# Altium schematic symbol library Universal components.SchLib: 42 symbols
Pins are listed as number, name and electrical type; pins without a type are passive.

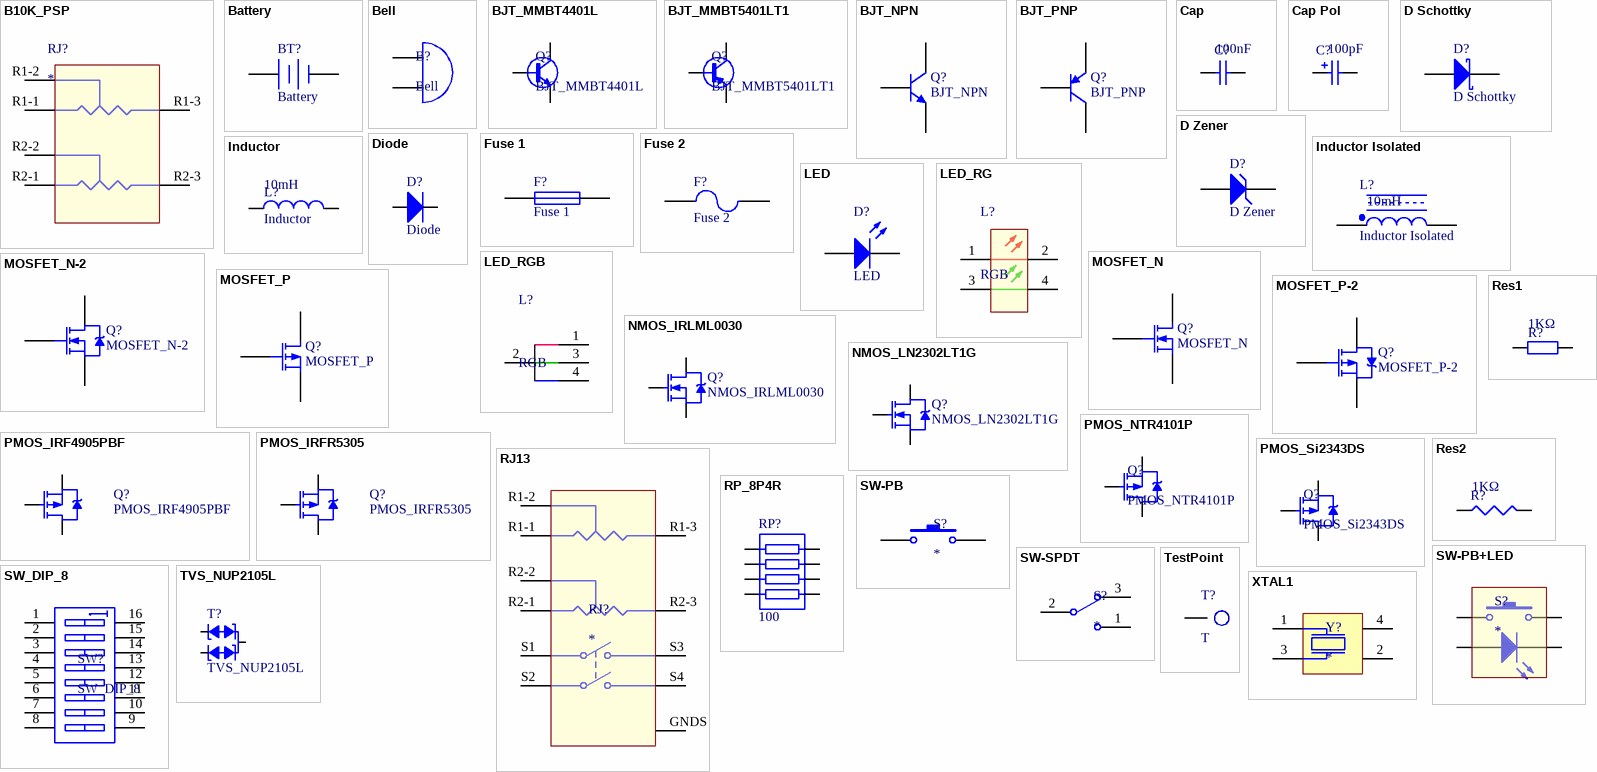
[diagram p0: symbols B10K_PSP to XTAL1]

## B10K_PSP
designator RJ?
footprint B10K_PSP
pins: R1-1 A, R1-2 TAP, R1-3 B, R2-1 A, R2-2 TAP, R2-3 B

## Battery
designator BT?
Multicell Battery; Published: 24-Mar-1999; LatestRevisionDate: 17-Jul-2002; LatestRevisionNote: Re-released for DXP Platform.; PackageReference: BAT-2; Publisher: Altium Limited; PackageDescription: Battery; 2 Leads
footprint BAT-HOL_S_18650X2 (Battery Holder, Surface mount, 18650 battery  2 cells)
pins: 1 +, 2 -

## Bell
designator B?
footprint Bell
footprint Bell_2310_15
footprint BELL_12X9.5
pins: 1 A, 2 B

## BJT_MMBT4401L
designator Q?
Switching Transistor  NPN Silicon
footprint SOT23_3_1 (SOT23, 3-Leads, Body 2.92x2.37mm, Pitch 0.95mm, IPC Medium Density)
pins: 1 b, 2 e, 3 c

## BJT_MMBT5401LT1
designator Q?
High Voltage Transistor  PNP Silicon
footprint SOT23_3_1 (SOT23, 3-Leads, Body 2.92x2.37mm, Pitch 0.95mm, IPC Medium Density)
pins: 1 B, 2 E, 3 C

## BJT_NPN
designator Q?
NPN Bipolar Transistor; Published: 8-Jun-2000; LatestRevisionDate: 17-Jul-2002; LatestRevisionNote: Re-released for DXP Platform.; PackageReference: TO-226-AA; Publisher: Altium Limited; PackageDescription: TO, Flat Index; 3 In-Line, Axial Leads; Body Dia. 4.8mm; Leads 0.55 x 0.51 mm (max); Code_JEDEC: TO-226-AA
simulation model NPN
signal-integrity model NPN
footprint SOT23_3_1 (SOT23, 3-Leads, Body 2.92x2.37mm, Pitch 0.95mm, IPC Medium Density)
footprint SOT523 (SOT23, 3-Leads, Body 1.60x1.60mm, Pitch 0.50mm, IPC High Density)
footprint SC70_3(SOT323) (SOT23, 3-Leads, Body 2.00x2.20mm, Pitch 0.65mm, IPC High Density)
footprint SC89_3(SOT490) (SOTFL, 3-Leads, Body 1.60x1.60mm, Pitch 0.50mm, IPC Medium Density)
pins: 1 B, 2 E, 3 C

## BJT_PNP
designator Q?
PNP Bipolar Transistor; Published: 8-Jun-2000; LatestRevisionDate: 29-May-2009; LatestRevisionNote: IPC-7351 Footprint Added.; PackageVersion: Aug-1999; PackageReference: SOT-23B; Publisher: Altium Limited; PackageDescription: 3-Pin SOT-23 Package 0.95 mm Pitch, 2.4 mm Lead Span
simulation model PNP
signal-integrity model PNP
footprint SOT23_3_1 (SOT23, 3-Leads, Body 2.92x2.37mm, Pitch 0.95mm, IPC Medium Density)
footprint SOT523 (SOT23, 3-Leads, Body 1.60x1.60mm, Pitch 0.50mm, IPC High Density)
footprint SC70_3(SOT323) (SOT23, 3-Leads, Body 2.00x2.20mm, Pitch 0.65mm, IPC High Density)
footprint SC89_3(SOT490) (SOTFL, 3-Leads, Body 1.60x1.60mm, Pitch 0.50mm, IPC Medium Density)
pins: 1 C, 2 B, 3 E

## Cap
designator C?  value 100nF  (hidden comment: Cap)
Capacitor SMD; Published: 8-Jun-2000; LatestRevisionDate: 17-Jul-2002; LatestRevisionNote: Re-released for DXP Platform.; PackageReference: RAD-0.3; Publisher: Altium Limited; PackageDescription: Radial Cap, Thru-Hole; 2 Leads; 0.3 in Pin Spacing
simulation model CAP (Capacitor)
signal-integrity model Cap
footprint C0402(1005) (Chip Inductor, 2-Leads, Body 1.00x0.50mm, IPC Medium Density)
footprint C1206(3216) (Chip Capacitor, 2-Leads, Body 3.20x1.60mm, IPC Medium Density)
footprint C1210(3225) (Chip Capacitor, 2-Leads, Body 3.20x2.50mm, IPC Medium Density)
footprint C0603(1608)_M (Chip Capacitor, Body 1.6x0.8mm, IPC Low Density)
footprint C0603(1608)_N (Chip Capacitor, 2-Leads, Body 1.60x0.80mm, IPC Medium Density)
footprint C0805(2012)_M (Chip Capacitor, Body 2.0x1.3mm, IPC Low Density)
footprint C0805(2012)_N (Chip Capacitor, 2-Leads, Body 2.00x1.25mm, IPC Medium Density)
pins: 1, 2

## Cap Pol
designator C?  value 100pF  (hidden comment: Cap Pol)
Polarized Capacitor (Surface Mount); Published: 8-Jun-2000; LatestRevisionDate: 29-May-2009; LatestRevisionNote: IPC-7351 Footprint Added.; PackageReference: C0805; Publisher: Altium Limited; PackageDescription: Chip Capacitor
simulation model CAP (Capacitor)
signal-integrity model Cap Pol
footprint CAE_D4.0X5.4 (Aluminum Electrolytic Capacitor, Body 4.30x4.30x5.60mm, IPC Low Density)
footprint CAE_D5.0X5.4 (Aluminum Electrolytic Capacitor, Body 5.30x5.30x5.60mm, IPC Low Density)
footprint CAE_D6.3X5.4 (Aluminum Electrolytic Capacitor, Body 6.60x6.60x5.70mm, IPC Low Density)
footprint CAE_D6.3X7.7 (Aluminum Electrolytic Capacitor, Body 6.60x6.60x7.90mm, IPC Low Density)
footprint CAE_D8.0X6.2 (Aluminum Electrolytic Capacitor, Body 8.30x8.30x6.40mm, IPC Low Density)
footprint CAE_D8.0X10.2 (Aluminum Electrolytic Capacitor, Body 8.30x8.30x11.00mm, IPC Low Density)
footprint CAE_D10.0X10.2 (Aluminum Electrolytic Capacitor, Body 10.30x10.30x11.00mm, IPC Low Density)
footprint CAE_D10.0X13.5 (Aluminum Electrolytic Capacitor, Body 10.30x10.30x14.50mm, IPC Low Density)
footprint CT_3216(A)
footprint CAE_8.0X12.0X3.5 (脚距3.5mm)
pins: 1, 2
1 alternate drawing of the same symbol

## D Schottky
designator D?
Schottky Diode; Published: 8-Jun-2000; LatestRevisionDate: 17-Jul-2002; LatestRevisionNote: Re-released for DXP Platform.; PackageReference: SMB; Publisher: Altium Limited; PackageDescription: DO-214-AA/SMB; 2 C-Bend Leads; Body 5.3 x 3.6 mm, inc. leads (LxW); Code_JEDEC: DO-214-AA
simulation model SKYDIODE (Diode)
signal-integrity model D Schottky
footprint DO-214AA(SMB) (Molded Diode, 2-Leads, Body 5.29x3.62mm, IPC Medium Density)
footprint DO-214AB(SMC) (Molded Diode, 2-Leads, Body 7.94x5.90mm, IPC Medium Density)
footprint DO-214AC(SMA) (Molded Diode, 2-Leads, Body 5.19x2.60mm, IPC Medium Density)
footprint DO-214AD(SMAF) (SODFL, 2-Leads, Body 2.60x4.60mm, IPC Medium Density)
pins: 1 K, 2 A

## D Zener
designator D?
Zener Diode; Published: 8-Jun-2000; LatestRevisionDate: 17-Jul-2002; LatestRevisionNote: Re-released for DXP Platform.; PackageReference: DIODE-0.7; Publisher: Altium Limited; PackageDescription: Diode, Thru-Hole; 2 Leads; 0.7 in Pin Spacing
simulation model ZENER (Diode)
signal-integrity model D Zener
footprint DO-214AA(SMB) (Molded Diode, 2-Leads, Body 5.29x3.62mm, IPC Medium Density)
footprint DO-214AB(SMC) (Molded Diode, 2-Leads, Body 7.94x5.90mm, IPC Medium Density)
footprint DO-214AC(SMA) (Molded Diode, 2-Leads, Body 5.19x2.60mm, IPC Medium Density)
footprint DO-214AD(SMAF) (SODFL, 2-Leads, Body 2.60x4.60mm, IPC Medium Density)
pins: 1 K, 2 A

## Diode
designator D?
Default Diode; Published: 8-Jun-2000; LatestRevisionDate: 17-Jul-2002; LatestRevisionNote: Re-released for DXP Platform.; PackageVersion: Sep-1996; PackageReference: SMC; Publisher: Altium Limited; PackageDescription: DO-214-AB/SMC; 2 C-Bend Leads; Body 7.9 x 5.9 mm, inc. leads (LxW); Code_JEDEC: DO-214-AB
simulation model DIODE (Diode)
signal-integrity model Diode
footprint SOD123 (SODFL, 2-Leads, Body 1.60x3.70mm, IPC Medium Density)
footprint SOD123_F (SODFL, 2-Leads, Body 1.60x3.70mm, IPC Medium Density)
footprint SOD323 (SODFL, 2-Leads, Body 1.30x2.60mm, IPC Medium Density)
footprint SOD323_F (SODFL, 2-Leads, Body 1.30x2.60mm, IPC Medium Density)
footprint SOD523 (SODFL, 2-Leads, Body 0.80x1.60mm, IPC Medium Density)
footprint SOD723 (SODFL, 2-Leads, Body 0.60x1.40mm, IPC Medium Density)
footprint SOD923 (SODFL, 2-Leads, Body 0.60x1.00mm, IPC Medium Density)
pins: 1 K, 2 A

## Fuse 1
designator F?
Fuse
simulation model FUSE (Spice Subcircuit)
footprint F0603(1608) (Chip Fuse, 2-Leads, Body 1.65x0.80mm, IPC Medium Density)
footprint F0805(2012) (Chip Fuse, 2-Leads, Body 2.10x1.35mm, IPC Medium Density)
footprint F1210(3225) (Chip Fuse, 2-Leads, Body 3.22x2.57mm, IPC Medium Density)
footprint F1812(4532) (Chip Fuse, 2-Leads, Body 4.55x3.24mm, IPC Medium Density)
footprint F2920 (Chip Fuse, 2-Leads, Body 7.36x5.12mm, IPC Medium Density)
footprint F1206(3216) (Chip Fuse, 2-Leads, Body 3.25x1.70mm, IPC Medium Density)
pins: 1, 2

## Fuse 2
designator F?
Fuse
simulation model FUSE (Spice Subcircuit)
footprint F0603(1608) (Chip Fuse, 2-Leads, Body 1.65x0.80mm, IPC Medium Density)
footprint F0805(2012) (Chip Fuse, 2-Leads, Body 2.10x1.35mm, IPC Medium Density)
footprint F1210(3225) (Chip Fuse, 2-Leads, Body 3.22x2.57mm, IPC Medium Density)
footprint F1812(4532) (Chip Fuse, 2-Leads, Body 4.55x3.24mm, IPC Medium Density)
footprint F2920 (Chip Fuse, 2-Leads, Body 7.36x5.12mm, IPC Medium Density)
footprint F1206(3216) (Chip Fuse, 2-Leads, Body 3.25x1.70mm, IPC Medium Density)
pins: 1, 2

## Inductor
designator L?  value 10mH
Code_IEC: 1005; Published: 8-Jun-2000; LatestRevisionDate: 29-May-2009; LatestRevisionNote: IPC-7351 Footprint Added.; PackageReference: 0402-A; Publisher: Altium Limited; PackageDescription: Chip Inductor; Code_JEITA: 0402
simulation model INDUCTOR (Inductor)
signal-integrity model Inductor
footprint L0402(1005) (Chip Inductor, 2-Leads, Body 1.00x0.50mm, IPC Medium Density)
footprint L0603(1608) (Chip Inductor, 2-Leads, Body 1.60x0.80mm, IPC Medium Density)
footprint L0805(2012) (Chip Inductor, 2-Leads, Body 2.00x1.25mm, IPC Medium Density)
footprint L1008(2520) (Chip Inductor, 2-Leads, Body 2.50x2.00mm, IPC Medium Density)
footprint L1210(3225) (Chip Inductor, 2-Leads, Body 3.20x2.50mm, IPC Medium Density)
footprint L1812(4532) (Chip Inductor, 2-Leads, Body 4.50x3.20mm, IPC Medium Density)
pins: 1, 2

## Inductor Isolated
designator L?  value 10mH
Isolated Inductor; Published: 24-Mar-1999; LatestRevisionDate: 17-Jul-2002; LatestRevisionNote: Re-released for DXP Platform.; PackageVersion: 1988; PackageReference: 425; Publisher: Altium Limited; PackageDescription: SOD-123; 2 Leads; Body 2.7 x 1.6 mm, (LxW)
signal-integrity model Inductor Isolated
footprint PL0303 (Precision Wire Wound Inductor, 2-Leads, Body 3.00x3.00mm, IPC Medium Density)
footprint PL0404 (Precision Wire Wound Inductor, 2-Leads, Body 4.00x4.00mm, IPC Medium Density)
footprint PL0505 (Precision Wire Wound Inductor, 2-Leads, Body 5.00x5.00mm, IPC Medium Density)
footprint PL0606 (Precision Wire Wound Inductor, 2-Leads, Body 6.00x6.00mm, IPC Medium Density)
footprint PL0707 (Precision Wire Wound Inductor, 2-Leads, Body 7.00x7.00mm, IPC Medium Density)
footprint PL0808 (Precision Wire Wound Inductor, 2-Leads, Body 8.15x8.15mm, IPC Medium Density)
footprint PL1010 (Precision Wire Wound Inductor, 2-Leads, Body 10.10x10.10mm, IPC Medium Density)
footprint PL1212 (Precision Wire Wound Inductor, 2-Leads, Body 12.00x12.00mm, IPC Medium Density)
pins: 1, 2

## LED
designator D?
Typical RED, GREEN, YELLOW, AMBER GaAs LED; Published: 8-Jun-2000; LatestRevisionDate: 17-Jul-2002; LatestRevisionNote: Re-released for DXP Platform.; PackageVersion: Feb-2002; PackageReference: 3.2X1.6X1.1; Publisher: Altium Limited; PackageDescription: SM LED; 2 Flat Leads
simulation model LED2 (Diode)
footprint LED0603(1608)_B (Chip Resistor, 2-Leads, Body 1.60x0.80mm, IPC Medium Density)
footprint LED0603(1608)_G (Chip Resistor, 2-Leads, Body 1.60x0.80mm, IPC Medium Density)
footprint LED0603(1608)_R (Chip Resistor, 2-Leads, Body 1.60x0.80mm, IPC Medium Density)
footprint LED0603(1608)_W (Chip Resistor, 2-Leads, Body 1.60x0.80mm, IPC Medium Density)
footprint LED0603(1608)_Y (Chip Resistor, 2-Leads, Body 1.60x0.80mm, IPC Medium Density)
footprint LED0805(2012)_B (Chip Resistor, 2-Leads, Body 2.00x1.27mm, IPC Medium Density)
footprint LED0805(2012)_G (Chip Resistor, 2-Leads, Body 2.00x1.27mm, IPC Medium Density)
footprint LED0805(2012)_O (Chip Resistor, 2-Leads, Body 2.00x1.27mm, IPC Medium Density)
footprint LED0805(2012)_R (Chip Resistor, 2-Leads, Body 2.00x1.27mm, IPC Medium Density)
footprint LED0805(2012)_Y (Chip Resistor, 2-Leads, Body 2.00x1.27mm, IPC Medium Density)
footprint LED-D3-254P-G
pins: 1 A, 2 K

## LED_RG
designator L?, comment RGB
LED RG
footprint LED_RG
pins: 1 DR+, 2 DR-, 3 DG+, 4 DG-

## LED_RGB
designator L?, comment RGB
LED RGB
footprint LED1210(3528)_RGB
pins: 1 OUT, 2 OUT, 3 OUT, 4 OUT

## MOSFET_N
designator Q?
N-Channel MOSFET; Published: 8-Jun-2000; LatestRevisionDate: 17-Jul-2002; LatestRevisionNote: Re-released for DXP Platform.; PackageVersion: 1995/1996; PackageReference: E3; Publisher: Altium Limited; PackageDescription: TO, Flat Index; 3 In-Line, Axial Leads; Body Dia. 4.6mm; Lead Dia. 0.5 mm (max)
simulation model NMOS (MOSFET-N)
footprint SOT23_3_1 (SOT23, 3-Leads, Body 2.92x2.37mm, Pitch 0.95mm, IPC Medium Density)
footprint SOT523 (SOT23, 3-Leads, Body 1.60x1.60mm, Pitch 0.50mm, IPC High Density)
footprint SC70_3(SOT323) (SOT23, 3-Leads, Body 2.00x2.20mm, Pitch 0.65mm, IPC High Density)
footprint SC89_3(SOT490) (SOTFL, 3-Leads, Body 1.60x1.60mm, Pitch 0.50mm, IPC Medium Density)
pins: 1 G, 2 S, 3 D

## MOSFET_N-2
designator Q?
N-Channel Enhancement-Mode MOSFET; Note: Pin 2 is electrically connected to pin 4.; Published: 8-Jun-2000; LatestRevisionDate: 17-Jul-2002; LatestRevisionNote: Re-released for DXP Platform.; DatasheetVersion: PD-9.814; PackageVersion: Feb-1997; PackageReference: TO-220AB; Publisher: Altium Limited; PackageDescription: TO, Thru-Hole, Vertical, Heatsink Mounted; 3 In-Line Leads; Pitch 2.54 mm; ComponentLink1Description: Manufacturer Link; ComponentLink1URL: http://www.irf.com/
simulation model IRF1010 (Spice Subcircuit)
footprint TO-252AA(DPAK) (D-PAK, 3-Pads, Body 6.00x6.73mm (max), IPC Medium Density)
footprint TO-263AB(D2PAK) (D2-PAK, 3-Pads, Body 8.44x8.19mm (max), IPC Medium Density)
footprint SOT23_3_1 (SOT23, 3-Leads, Body 2.92x2.37mm, Pitch 0.95mm, IPC Medium Density)
footprint SOT523 (SOT23, 3-Leads, Body 1.60x1.60mm, Pitch 0.50mm, IPC High Density)
footprint SC70_3(SOT323) (SOT23, 3-Leads, Body 2.00x2.20mm, Pitch 0.65mm, IPC High Density)
footprint SC89_3(SOT490) (SOTFL, 3-Leads, Body 1.60x1.60mm, Pitch 0.50mm, IPC Medium Density)
footprint TO-220AB
footprint TO-220AB_HS
pins: 1 G, 2 D, 3 S

## MOSFET_P
designator Q?
P-Channel MOSFET; Published: 8-Jun-2000; LatestRevisionDate: 17-Jul-2002; LatestRevisionNote: Re-released for DXP Platform.; PackageVersion: 1995/1996; PackageReference: E3; Publisher: Altium Limited; PackageDescription: TO, Flat Index; 3 In-Line, Axial Leads; Body Dia. 4.6mm; Lead Dia. 0.5 mm (max)
simulation model PMOS (MOSFET-P)
footprint SOT23_3_1 (SOT23, 3-Leads, Body 2.92x2.37mm, Pitch 0.95mm, IPC Medium Density)
footprint SOT523 (SOT23, 3-Leads, Body 1.60x1.60mm, Pitch 0.50mm, IPC High Density)
footprint SC70_3(SOT323) (SOT23, 3-Leads, Body 2.00x2.20mm, Pitch 0.65mm, IPC High Density)
footprint SC89_3(SOT490) (SOTFL, 3-Leads, Body 1.60x1.60mm, Pitch 0.50mm, IPC Medium Density)
pins: 1 G, 2 S, 3 D

## MOSFET_P-2
designator Q?
P-Channel Enhancement-Mode MOSFET; Note: Pin 4 not drawn and electrically connected to Pin 2.; Published: 8-Jun-2000; LatestRevisionDate: 17-Jul-2002; LatestRevisionNote: Re-released for DXP Platform.; DatasheetVersion: PD-9.390D; PackageVersion: Feb-1997; PackageReference: TO-220AB; Publisher: Altium Limited; PackageDescription: TO, Thru-Hole, Vertical, Heatsink Mounted; 3 In-Line Leads; Pitch 2.54 mm; ComponentLink1Description: Manufacturer Link; ComponentLink1URL: http://www.irf.com/
simulation model IRF9510 (Spice Subcircuit)
footprint TO-252AA(DPAK) (D-PAK, 3-Pads, Body 6.00x6.73mm (max), IPC Medium Density)
footprint TO-263AB(D2PAK) (D2-PAK, 3-Pads, Body 8.44x8.19mm (max), IPC Medium Density)
footprint SOT23_3_1 (SOT23, 3-Leads, Body 2.92x2.37mm, Pitch 0.95mm, IPC Medium Density)
footprint SOT523 (SOT23, 3-Leads, Body 1.60x1.60mm, Pitch 0.50mm, IPC High Density)
footprint SC70_3(SOT323) (SOT23, 3-Leads, Body 2.00x2.20mm, Pitch 0.65mm, IPC High Density)
footprint SC89_3(SOT490) (SOTFL, 3-Leads, Body 1.60x1.60mm, Pitch 0.50mm, IPC Medium Density)
pins: 1 G, 2 D, 3 S

## NMOS_IRLML0030
designator Q?
IRF SOT-23-3
footprint SOT23_3_1 (SOT23, 3-Leads, Body 2.92x2.37mm, Pitch 0.95mm, IPC Medium Density)
pins: 1 G, 2 S, 3 D

## NMOS_LN2302LT1G
designator Q?
LRC 20V N-Channel Enhancement-Mode MOSFET
footprint SOT23_3_1 (SOT23, 3-Leads, Body 2.92x2.37mm, Pitch 0.95mm, IPC Medium Density)
pins: 1 G, 2 S, 3 D

## PMOS_IRF4905PBF
designator Q?
IRF TO-220-3 55V 0.02Ohm 74A
footprint TO-220AB
footprint TO-220AB_HS
pins: 1 G, 2 D, 3 S

## PMOS_IRFR5305
designator Q?
IRF TO-252-2 55V 0.11Ohm 18A
footprint TO-252AA(DPAK) (D-PAK, 3-Pads, Body 6.00x6.73mm (max), IPC Medium Density)
pins: 1 G, 2 D, 3 S

## PMOS_NTR4101P
designator Q?
Trench Power MOSFET  −20 V, Single P−Channel, SOT−23
footprint SOT23_3_1 (SOT23, 3-Leads, Body 2.92x2.37mm, Pitch 0.95mm, IPC Medium Density)
pins: 1 G, 2 S, 3 D

## PMOS_Si2343DS
designator Q?
P-Channel 30-V (D-S) MOSFET
footprint SOT23_3_1 (SOT23, 3-Leads, Body 2.92x2.37mm, Pitch 0.95mm, IPC Medium Density)
pins: 1 G, 2 S, 3 D

## Res1
designator R?  value 1KΩ  (hidden comment: Res1)
Resistor; Published: 8-Jun-2000; LatestRevisionDate: 17-Jul-2002; LatestRevisionNote: Re-released for DXP Platform.; PackageReference: AXIAL-0.4; Publisher: Altium Limited; PackageDescription: Axial Device, Thru-Hole; 2 Leads; 0.4 in Pin Spacing
simulation model RESISTOR (Resistor)
signal-integrity model Res
footprint R0402(1005) (Chip Resistor, 2-Leads, Body 1.00x0.50mm, IPC Medium Density)
footprint R0805(2012) (Chip Resistor, 2-Leads, Body 2.00x1.27mm, IPC Medium Density)
footprint R1206(3216) (Chip Resistor, 2-Leads, Body 3.20x1.60mm, IPC Medium Density)
footprint R2010(5025) (Chip Resistor, 2-Leads, Body 5.00x2.50mm, IPC Medium Density)
footprint R0603(1608)_M (Chip Resistor, Body 1.6x0.8mm, IPC Low Density)
footprint R0603(1608)_N (Chip Resistor, 2-Leads, Body 1.60x0.80mm, IPC Medium Density)
pins: 1, 2

## Res2
designator R?  value 1KΩ  (hidden comment: Res2)
Resistor; Published: 8-Jun-2000; LatestRevisionDate: 29-May-2009; LatestRevisionNote: IPC-7351 Footprint Added.; PackageReference: J1-0603; Publisher: Altium Limited; PackageDescription: Chip Resistor
simulation model RESISTOR (Resistor)
signal-integrity model Res
footprint R0402(1005) (Chip Resistor, 2-Leads, Body 1.00x0.50mm, IPC Medium Density)
footprint R0805(2012) (Chip Resistor, 2-Leads, Body 2.00x1.27mm, IPC Medium Density)
footprint R1206(3216) (Chip Resistor, 2-Leads, Body 3.20x1.60mm, IPC Medium Density)
footprint R0603(1608)_M (Chip Resistor, Body 1.6x0.8mm, IPC Low Density)
footprint R0603(1608)_N (Chip Resistor, 2-Leads, Body 1.60x0.80mm, IPC Medium Density)
pins: 1, 2

## RJ13
designator RJ?
footprint B10K-M-PCB
footprint B10K-L-PCB
pins: GNDS, R1-1 A, R1-2 TAP, R1-3 B, R2-1 A, R2-2 TAP, R2-3 B, S1 COMMON1, S2 COMMON2, S3 NO1, S4 NO2

## RP_8P4R
designator RP?, comment 100
footprint RP_8P4R_0603 (Chip Array, Concave, 8-Leads, Pitch 0.80mm,  Body 3.20x1.60mm,  IPC Medium Density)
pins: 1, 2, 3, 4, 5, 6, 7, 8

## SW-PB
designator S?
footprint SW-PB-HY1103/3FTH9
footprint SW-PB-MEC_3FTH9
footprint SW-PB-HY1103T
footprint SW-PB-6*6*8-4P
footprint SW-PB-DTSM-24-V_L
footprint SW-PB-DTSM-24-V_S
footprint SW_PB (轻触开关)
pins: 1, 2

## SW-PB+LED
designator S?
footprint SW-PB-6*6*9.5-4P(+LED) (Power switch)
pins: 1, 2, 3 A, 4 K

## SW-SPDT
designator S?
footprint SW-SPDT-HY-58ZS
footprint SW-SPDT-SS12F44
footprint SW-SPDT-SS12F23
footprint SW_SPDT_Doggle (Toggle switch)
footprint SW_SPDT_DOGGLE_NUTS (Toggle Switch with nuts and washer)
pins: 1, 2, 3

## SW_DIP_8
designator SW?
DIP Switch, 8 Position, SPST
footprint SW_SMD_8P (DIP Switch 8P SMD)
pins: 1 A1, 2 A2, 3 A3, 4 A4, 5 A5, 6 A6, 7 A7, 8 A8, 9 B8, 10 B7, 11 B6, 12 B5, 13 B4, 14 B3, 15 B2, 16 B1

## TestPoint
designator T?, comment T
footprint TestPoint
pins: 1

## TVS_NUP2105L
designator T?
CAN总线保护用瞬态二极管
footprint SOT23_3_1 (SOT23, 3-Leads, Body 2.92x2.37mm, Pitch 0.95mm, IPC Medium Density)
pins: 1, 2, 3

## XTAL1
designator Y?
Crystal, 4Pin
footprint SX4_3225
footprint SX4_5032
pins: 1, 2, 3, 4

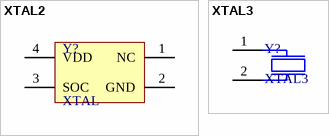
[diagram p1: symbols XTAL2 to XTAL3]

## XTAL2
designator Y?, comment XTAL
Oscillator, 4Pin
footprint SX4_3225
footprint SX4_5032
pins: 1 NC, 2 GND, 3 SOC, 4 VDD

## XTAL3
designator Y?
Crystal, 2Pin
footprint SX2_3215
pins: 1, 2